# Altium schematic symbol library LED-2.Schlib: 1 symbol
Pins are listed as number, name and electrical type; pins without a type are passive.

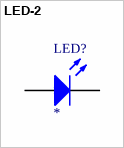
[diagram p0: symbol LED-2]

## LED-2
designator LED?
pins: 1 A, 2 K